# Altium footprint library RES-V5.PcbLib: 1 footprints
Each footprint in its own frame and in the unit in brackets; x right, y up, seen from the top. Pads: shape width x height; smd on the part's side, far side on the other; paste and mask are expansions set on the pad; w line width, h text height; cw(c..) or ccw(c..) is an arc to the next point about the centre after c.
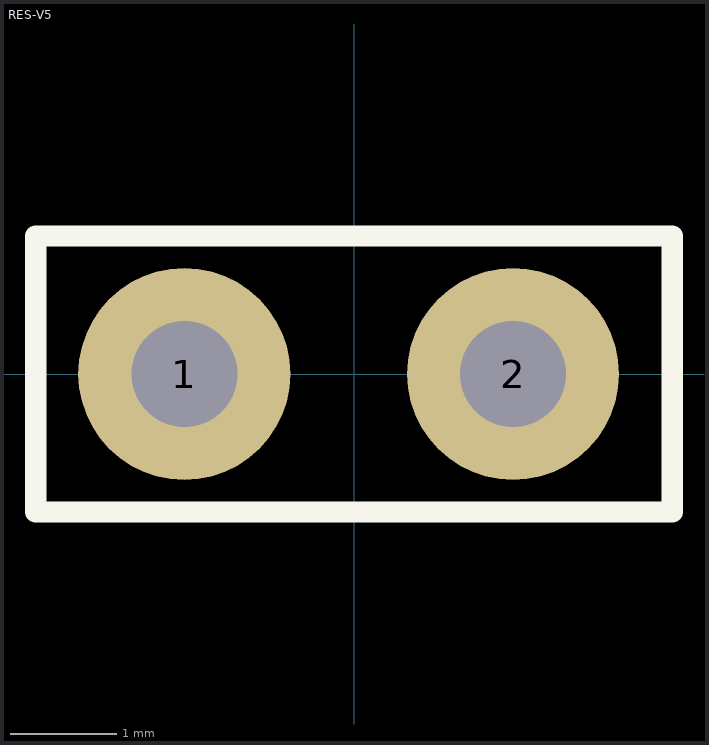
[diagram p0: the footprint, top view; thin cyan lines are the x and y axes]

## RES-V5 [mm]
height 0.55
pads (2):
  round 2 hole 1: 1(-1.6,0) 2(1.5,0)
Top Overlay:
  lines w0.2: -3,-1.3 3,-1.3 3,1.3 -3,1.3 -3,-1.3
Top Assembly:
  lines w0.1: -3,-1.3 3,-1.3 3,1.3 -3,1.3 -3,-1.3
  text "'.Designator'" at 0,0 h0.7
3D body "KLS6-MF72-10D5.STEP": height 14, standoff -17, extent -3,-1.25 3,1.25